# EAGLE library part P1-0S (library RadioStack_v2)
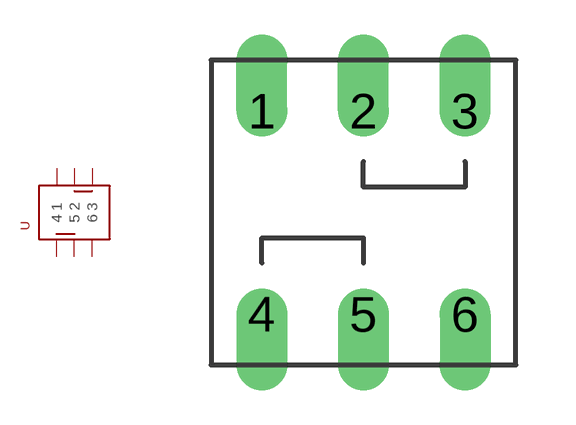
[diagram p1: symbol with the pads of P1-0S; footprint P1-0S]

Designator prefix -

## P1-0S  [P1-0S]
1  1
2  2
3  3
4  4
5  5
6  6

## Footprint P1-0S (pad centres in mm)
drill 0.762 pad 1.27 offset: 1 0,0; 2 2.54,0; 3 5.08,0; 4 0,-5.08; 5 2.54,-5.08; 6 5.08,-5.08